# Altium schematic symbol library TPS78001DDCR.SchLib: 1 symbol
Pins are listed as number, name and electrical type; pins without a type are passive.

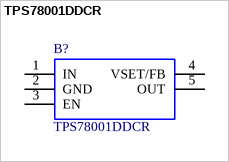
[diagram p0: symbol TPS78001DDCR]

## TPS78001DDCR
designator B?
150mA, LDO Regulator, Ultra-Low Power, Iq 500nA w/ Pin-Selectable, Dual-Level Output Voltage; Manufacturer_Name: Texas Instruments; Geometry.Height: 1.45mm; Mouser Part Number: *; Manufacturer_Part_Number: TPS78001DDCR; Datasheet Link: http://www.ti.com/lit/gpn/tps780
footprint SOT95P280X145-5N
pins: 1 IN, 2 GND, 3 EN, 4 VSET/FB, 5 OUT